# EAGLE library part INA240A1 (library INA240A1)
INA240A1 TSSOP
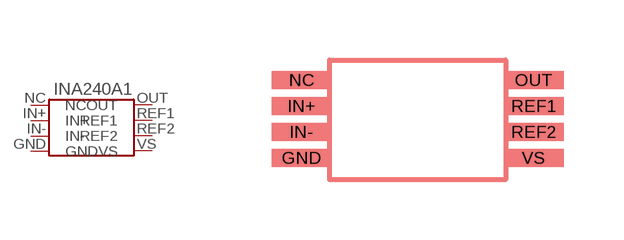
[diagram p0: symbol with the pads of INA240A1; footprint INA240A1]

Designator prefix -

## INA240A1  [INA240A1]
GND  GND  pwr
IN+  IN+  in
IN-  IN-  in
NC  NC  nc
OUT  OUT  out
REF1  REF1  in
REF2  REF2  in
VS  VS  pwr

## Footprint INA240A1 (pad centres in mm)
INA240A1 TSSOP
smd 1.5 x 0.45: GND 0,-1.95; IN+ 0,-0.65; IN- 0,-1.3; NC 0,0; OUT 5.8,0; REF1 5.8,-0.65; REF2 5.8,-1.3; VS 5.8,-1.95